# EAGLE library part PCA9685PW (library CustomPartsByIcE)
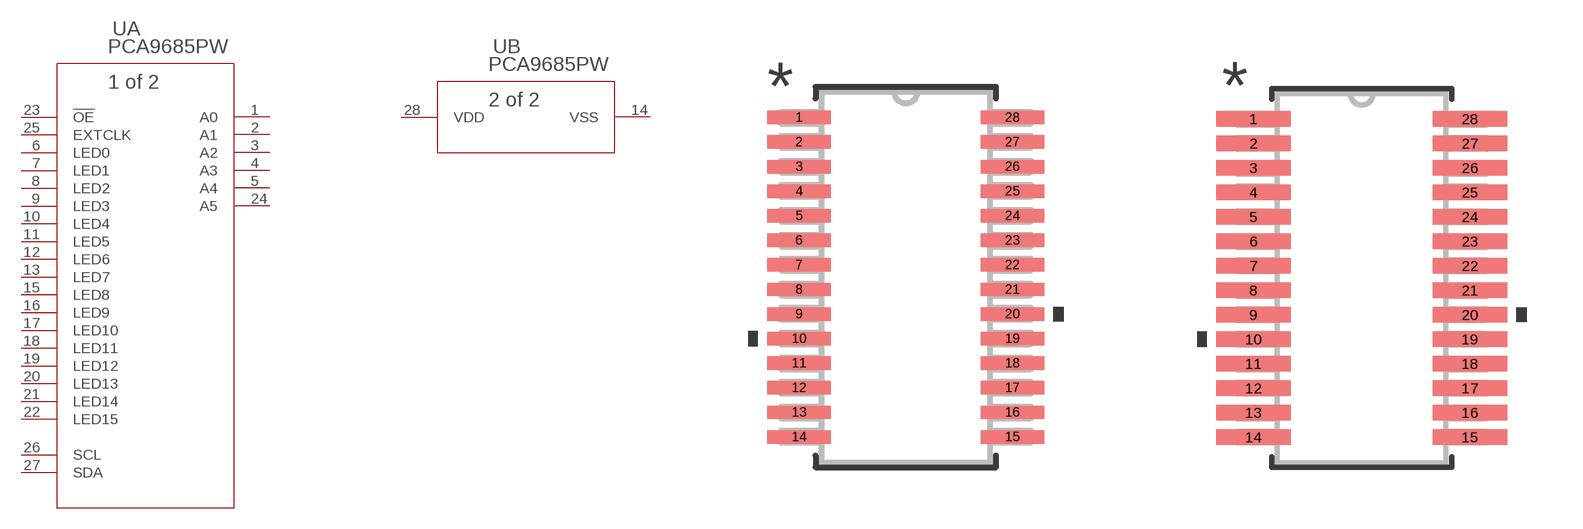
[diagram p2: symbol with the pads of SOT361-1; footprints SOT361-1, SOT361-1-M]

Designator prefix U; gates A=PCA9685PW B=PCA9685PW_A

## PCA9685PW (MANUFACTURER_PART_NUMBER: PCA9685PW; VENDOR: NXP)  [SOT361-1]
1  A:A0  pas
2  A:A1  pas
3  A:A2  pas
4  A:A3  pas
5  A:A4  pas
6  A:LED0  pas
7  A:LED1  pas
8  A:LED2  pas
9  A:LED3  pas
10  A:LED4  pas
11  A:LED5  pas
12  A:LED6  pas
13  A:LED7  pas
14  B:VSS  pas
15  A:LED8  pas
16  A:LED9  pas
17  A:LED10  pas
18  A:LED11  pas
19  A:LED12  pas
20  A:LED13  pas
21  A:LED14  pas
22  A:LED15  pas
23  A:!OE  pas
24  A:A5  pas
25  A:EXTCLK  pas
26  A:SCL  pas
27  A:SDA  pas
28  B:VDD  pas

## PCA9685PWSOT361-1-M (MANUFACTURER_PART_NUMBER: PCA9685PW; VENDOR: NXP)  [SOT361-1-M]
Pads as for SOT361-1

## PCA9685PWSOT361-1-L (MANUFACTURER_PART_NUMBER: PCA9685PW; VENDOR: NXP)  [SOT361-1-L]
Pads as for SOT361-1

## Footprint SOT361-1 (pad centres in mm)
smd 1.676 x 0.356: 1 -2.819,4.225; 2 -2.819,3.575; 3 -2.819,2.925; 4 -2.819,2.275; 5 -2.819,1.625; 6 -2.819,0.975; 7 -2.819,0.325; 8 -2.819,-0.325; 9 -2.819,-0.975; 10 -2.819,-1.625; 11 -2.819,-2.275; 12 -2.819,-2.925; 13 -2.819,-3.575; 14 -2.819,-4.225; 15 2.819,-4.225; 16 2.819,-3.575; 17 2.819,-2.925; 18 2.819,-2.275; 19 2.819,-1.625; 20 2.819,-0.975; 21 2.819,-0.325; 22 2.819,0.325; 23 2.819,0.975; 24 2.819,1.625; 25 2.819,2.275; 26 2.819,2.925; 27 2.819,3.575; 28 2.819,4.225

## Footprint SOT361-1-M (pad centres in mm)
smd 1.981 x 0.406: 1 -2.87,4.225; 2 -2.87,3.575; 3 -2.87,2.925; 4 -2.87,2.275; 5 -2.87,1.625; 6 -2.87,0.975; 7 -2.87,0.325; 8 -2.87,-0.325; 9 -2.87,-0.975; 10 -2.87,-1.625; 11 -2.87,-2.275; 12 -2.87,-2.925; 13 -2.87,-3.575; 14 -2.87,-4.225; 15 2.87,-4.225; 16 2.87,-3.575; 17 2.87,-2.925; 18 2.87,-2.275; 19 2.87,-1.625; 20 2.87,-0.975; 21 2.87,-0.325; 22 2.87,0.325; 23 2.87,0.975; 24 2.87,1.625; 25 2.87,2.275; 26 2.87,2.925; 27 2.87,3.575; 28 2.87,4.225

## Footprint SOT361-1-L (pad centres in mm)
smd 1.372 x 0.305: 1 -2.769,4.225; 2 -2.769,3.575; 3 -2.769,2.925; 4 -2.769,2.275; 5 -2.769,1.625; 6 -2.769,0.975; 7 -2.769,0.325; 8 -2.769,-0.325; 9 -2.769,-0.975; 10 -2.769,-1.625; 11 -2.769,-2.275; 12 -2.769,-2.925; 13 -2.769,-3.575; 14 -2.769,-4.225; 15 2.769,-4.225; 16 2.769,-3.575; 17 2.769,-2.925; 18 2.769,-2.275; 19 2.769,-1.625; 20 2.769,-0.975; 21 2.769,-0.325; 22 2.769,0.325; 23 2.769,0.975; 24 2.769,1.625; 25 2.769,2.275; 26 2.769,2.925; 27 2.769,3.575; 28 2.769,4.225